# Altium schematic symbol library WE-LAN.SchLib: 47 symbols
Pins are listed as number, name and electrical type; pins without a type are passive.

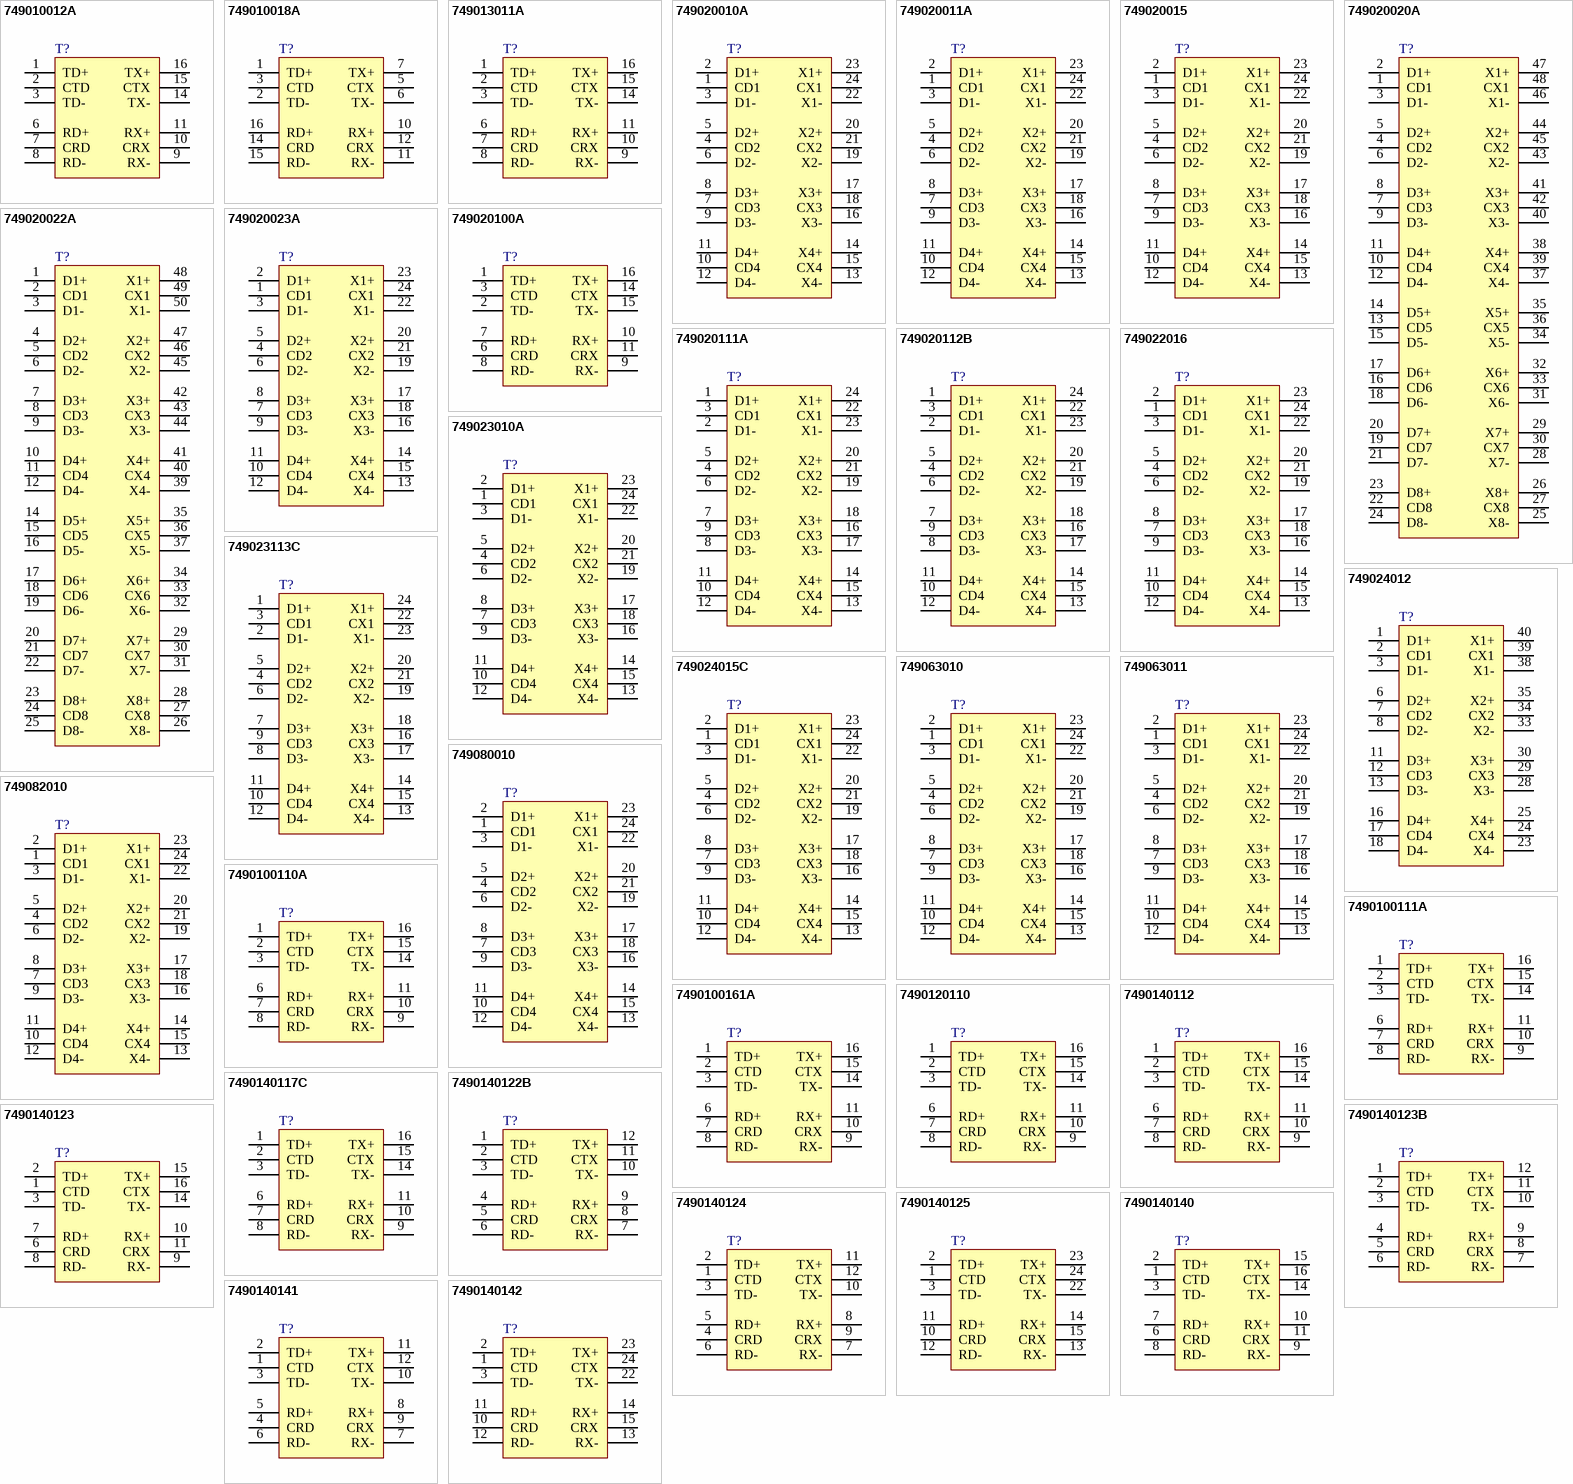
[diagram p0: symbols 749010012A to 7490140142]

## 749010012A
designator T?  (value not drawn)
WE-LAN LAN Transformer, SMT, 10/100BASE-TX, 1 Port, 350uH, 1500V (RMS); Manufacturer: Wurth Elektronik; Improved CMRR: No; Number of Ports: 1; PoE: non-PoE; Manufacturer Part Number: 749010012A; Product Series: WE-LAN; ComponentLink1Description: Website Link; ComponentLink1URL: https://www.we-online.com; ComponentLink2Description: Datasheet Link; ComponentLink2URL: https://www.we-online.com/components/products/datasheet/749010012A; Mount: Surface Mount; Operating Temperature Min: 0degC; Operating Temperature Max: 70degC; Packaging: Tape and Reel; Data Rate: 10/100BASE-TX; Inductance: 350uH; Insulation Test Voltage: 1500V (RMS)
footprint 749010012A
pins: 1 TD+, 2 CTD, 3 TD-, 6 RD+, 7 CRD, 8 RD-, 9 RX-, 10 CRX, 11 RX+, 14 TX-, 15 CTX, 16 TX+

## 749010018A
designator T?  (value not drawn)
WE-LAN LAN Transformer, SMT, 10/100BASE-T, 1 Port, 350uH, 1500V (RMS); Manufacturer: Wurth Elektronik; Number of Ports: 1; PoE: non-PoE; Manufacturer Part Number: 749010018A; Product Series: WE-LAN; ComponentLink1Description: Website Link; ComponentLink1URL: https://www.we-online.com; ComponentLink2Description: Datasheet Link; ComponentLink2URL: https://www.we-online.com/components/products/datasheet/749010018A; Mount: Surface Mount; Operating Temperature Min: -40degC; Operating Temperature Max: 85degC; Packaging: Tape and Reel; Data Rate: 10/100BASE-T; Inductance: 350uH; Insulation Test Voltage: 1500V (RMS)
footprint 749010018A
pins: 1 TD+, 2 TD-, 3 CTD, 5 CTX, 6 TX-, 7 TX+, 10 RX+, 11 RX-, 12 CRX, 14 CRD, 15 RD-, 16 RD+

## 749013011A
designator T?  (value not drawn)
WE-LAN LAN Transformer, SMT, 10/100BASE-TX, 1 Port, 350uH, 1500V (RMS); Manufacturer: Wurth Elektronik; Improved CMRR: No; Number of Ports: 1; PoE: PoE (up to 350 mA); Manufacturer Part Number: 749013011A; Product Series: WE-LAN; ComponentLink1Description: Website Link; ComponentLink1URL: https://www.we-online.com; ComponentLink2Description: Datasheet Link; ComponentLink2URL: https://www.we-online.com/components/products/datasheet/749013011A; Mount: Surface Mount; Operating Temperature Min: -40degC; Operating Temperature Max: 105degC; Packaging: Tape and Reel; Data Rate: 10/100BASE-TX; Inductance: 350uH; Insulation Test Voltage: 1500V (RMS)
footprint 749013011A
pins: 1 TD+, 2 CTD, 3 TD-, 6 RD+, 7 CRD, 8 RD-, 9 RX-, 10 CRX, 11 RX+, 14 TX-, 15 CTX, 16 TX+

## 749020010A
designator T?  (value not drawn)
WE-LAN LAN Transformer, SMT, 1000 Base-T, 1 Port, 350uH, 1500V (RMS); Manufacturer: Wurth Elektronik; Improved CMRR: No; Number of Ports: 1; PoE: non-PoE; Manufacturer Part Number: 749020010A; Product Series: WE-LAN; ComponentLink1Description: Website Link; ComponentLink1URL: https://www.we-online.com; ComponentLink2Description: Datasheet Link; ComponentLink2URL: https://www.we-online.com/components/products/datasheet/749020010A; Mount: Surface Mount; Operating Temperature Min: -40degC; Operating Temperature Max: 85degC; Packaging: Tape and Reel; Data Rate: 1000 Base-T; Inductance: 350uH; Insulation Test Voltage: 1500V (RMS)
footprint 749020010A
pins: 1 CD1, 2 D1+, 3 D1-, 4 CD2, 5 D2+, 6 D2-, 7 CD3, 8 D3+, 9 D3-, 10 CD4, 11 D4+, 12 D4-, 13 X4-, 14 X4+, 15 CX4, 16 X3-, 17 X3+, 18 CX3, 19 X2-, 20 X2+, 21 CX2, 22 X1-, 23 X1+, 24 CX1

## 749020011A
designator T?  (value not drawn)
WE-LAN LAN Transformer, SMT, 1000 Base-T, 1 Port, 350uH, 1500V (RMS); Manufacturer: Wurth Elektronik; Improved CMRR: Yes; Number of Ports: 1; PoE: non-PoE; Manufacturer Part Number: 749020011A; Product Series: WE-LAN; ComponentLink1Description: Website Link; ComponentLink1URL: https://www.we-online.com; ComponentLink2Description: Datasheet Link; ComponentLink2URL: https://www.we-online.com/components/products/datasheet/749020011A; Mount: Surface Mount; Operating Temperature Min: -40degC; Operating Temperature Max: 85degC; Packaging: Tape and Reel; Data Rate: 1000 Base-T; Inductance: 350uH; Insulation Test Voltage: 1500V (RMS)
footprint 749020011A
pins: 1 CD1, 2 D1+, 3 D1-, 4 CD2, 5 D2+, 6 D2-, 7 CD3, 8 D3+, 9 D3-, 10 CD4, 11 D4+, 12 D4-, 13 X4-, 14 X4+, 15 CX4, 16 X3-, 17 X3+, 18 CX3, 19 X2-, 20 X2+, 21 CX2, 22 X1-, 23 X1+, 24 CX1

## 749020015
designator T?  (value not drawn)
WE-LAN LAN Transformer, SMT, 10/100/1000BASE-T, 1 Port, 350uH, 1500V (RMS); Manufacturer: Wurth Elektronik; Improved CMRR: No; Number of Ports: 1; PoE: non-PoE; Manufacturer Part Number: 749020015; Product Series: WE-LAN; ComponentLink1Description: Website Link; ComponentLink1URL: https://www.we-online.com; ComponentLink2Description: Datasheet Link; ComponentLink2URL: https://www.we-online.com/components/products/datasheet/749020015; Mount: Surface Mount; Operating Temperature Min: -40degC; Operating Temperature Max: 85degC; Packaging: Tape and Reel; Data Rate: 10/100/1000BASE-T; Inductance: 350uH; Insulation Test Voltage: 1500V (RMS)
footprint 749020015
pins: 1 CD1, 2 D1+, 3 D1-, 4 CD2, 5 D2+, 6 D2-, 7 CD3, 8 D3+, 9 D3-, 10 CD4, 11 D4+, 12 D4-, 13 X4-, 14 X4+, 15 CX4, 16 X3-, 17 X3+, 18 CX3, 19 X2-, 20 X2+, 21 CX2, 22 X1-, 23 X1+, 24 CX1

## 749020020A
designator T?  (value not drawn)
WE-LAN LAN Transformer, SMT, 10/100/1000BASE-T, 2 Port, 350uH, 1500V (RMS); Manufacturer: Wurth Elektronik; Improved CMRR: No; Number of Ports: 2; PoE: non-PoE; Manufacturer Part Number: 749020020A; Product Series: WE-LAN; ComponentLink1Description: Website Link; ComponentLink1URL: https://www.we-online.com; ComponentLink2Description: Datasheet Link; ComponentLink2URL: https://www.we-online.com/components/products/datasheet/749020020A; Mount: Surface Mount; Operating Temperature Min: -40degC; Operating Temperature Max: 85degC; Packaging: Tape and Reel; Data Rate: 10/100/1000BASE-T; Inductance: 350uH; Insulation Test Voltage: 1500V (RMS)
footprint 749020020A
pins: 1 CD1, 2 D1+, 3 D1-, 4 CD2, 5 D2+, 6 D2-, 7 CD3, 8 D3+, 9 D3-, 10 CD4, 11 D4+, 12 D4-, 13 CD5, 14 D5+, 15 D5-, 16 CD6, 17 D6+, 18 D6-, 19 CD7, 20 D7+, 21 D7-, 22 CD8, 23 D8+, 24 D8-, 25 X8-, 26 X8+, 27 CX8, 28 X7-, 29 X7+, 30 CX7, 31 X6-, 32 X6+, 33 CX6, 34 X5-, 35 X5+, 36 CX5, 37 X4-, 38 X4+, 39 CX4, 40 X3-, 41 X3+, 42 CX3, 43 X2-, 44 X2+, 45 CX2, 46 X1-, 47 X1+, 48 CX1

## 749020022A
designator T?  (value not drawn)
WE-LAN LAN Transformer, SMT, 1000 Base-T, 2 Port, 350uH, 1500V (RMS); Manufacturer: Wurth Elektronik; Improved CMRR: No; Number of Ports: 2; PoE: non-PoE; Manufacturer Part Number: 749020022A; Product Series: WE-LAN; ComponentLink1Description: Website Link; ComponentLink1URL: https://www.we-online.com; ComponentLink2Description: Datasheet Link; ComponentLink2URL: https://www.we-online.com/components/products/datasheet/749020022A; Mount: Surface Mount; Operating Temperature Min: -40degC; Operating Temperature Max: 85degC; Packaging: Tape and Reel; Data Rate: 1000 Base-T; Inductance: 350uH; Insulation Test Voltage: 1500V (RMS)
footprint 749020022A
pins: 1 D1+, 2 CD1, 3 D1-, 4 D2+, 5 CD2, 6 D2-, 7 D3+, 8 CD3, 9 D3-, 10 D4+, 11 CD4, 12 D4-, 14 D5+, 15 CD5, 16 D5-, 17 D6+, 18 CD6, 19 D6-, 20 D7+, 21 CD7, 22 D7-, 23 D8+, 24 CD8, 25 D8-, 26 X8-, 27 CX8, 28 X8+, 29 X7+, 30 CX7, 31 X7-, 32 X6-, 33 CX6, 34 X6+, 35 X5+, 36 CX5, 37 X5-, 39 X4-, 40 CX4, 41 X4+, 42 X3+, 43 CX3, 44 X3-, 45 X2-, 46 CX2, 47 X2+, 48 X1+, 49 CX1, 50 X1-

## 749020023A
designator T?  (value not drawn)
WE-LAN LAN Transformer, SMT, 1000BASE-T, 1 Port, 350uH, 1500V (RMS); Manufacturer: Wurth Elektronik; Improved CMRR: No; Number of Ports: 1; PoE: non-PoE; Manufacturer Part Number: 749020023A; Product Series: WE-LAN; ComponentLink1Description: Website Link; ComponentLink1URL: https://www.we-online.com; ComponentLink2Description: Datasheet Link; ComponentLink2URL: https://www.we-online.com/components/products/datasheet/749020023A; Mount: Surface Mount; Operating Temperature Min: -40degC; Operating Temperature Max: 105degC; Packaging: Tape and Reel; Data Rate: 1000BASE-T; Inductance: 350uH; Insulation Test Voltage: 1500V (RMS)
footprint 749020023A
pins: 1 CD1, 2 D1+, 3 D1-, 4 CD2, 5 D2+, 6 D2-, 7 CD3, 8 D3+, 9 D3-, 10 CD4, 11 D4+, 12 D4-, 13 X4-, 14 X4+, 15 CX4, 16 X3-, 17 X3+, 18 CX3, 19 X2-, 20 X2+, 21 CX2, 22 X1-, 23 X1+, 24 CX1

## 749020100A
designator T?  (value not drawn)
WE-LAN LAN Transformer, SMT, 10/100/1000BASE-T, 0.5 Port, 350uH, 1500V (RMS); Manufacturer: Wurth Elektronik; Improved CMRR: No; Number of Ports: 0.5; PoE: non-PoE; Manufacturer Part Number: 749020100A; Product Series: WE-LAN; ComponentLink1Description: Website Link; ComponentLink1URL: https://www.we-online.com; ComponentLink2Description: Datasheet Link; ComponentLink2URL: https://www.we-online.com/components/products/datasheet/749020100A; Mount: Surface Mount; Operating Temperature Min: -40degC; Operating Temperature Max: 105degC; Packaging: Tape and Reel; Data Rate: 10/100/1000BASE-T; Inductance: 350uH; Insulation Test Voltage: 1500V (RMS)
footprint 749020100A
pins: 1 TD+, 2 TD-, 3 CTD, 6 CRD, 7 RD+, 8 RD-, 9 RX-, 10 RX+, 11 CRX, 14 CTX, 15 TX-, 16 TX+

## 749020111A
designator T?  (value not drawn)
WE-LAN LAN Transformer, SMT, 1000 Base-T, 1 Port, 350uH, 1500V (RMS); Manufacturer: Wurth Elektronik; Improved CMRR: No; Number of Ports: 1; PoE: non-PoE; Manufacturer Part Number: 749020111A; Product Series: WE-LAN; ComponentLink1Description: Website Link; ComponentLink1URL: https://www.we-online.com; ComponentLink2Description: Datasheet Link; ComponentLink2URL: https://www.we-online.com/components/products/datasheet/749020111A; Mount: Surface Mount; Operating Temperature Min: 0degC; Operating Temperature Max: 70degC; Packaging: Tape and Reel; Data Rate: 1000 Base-T; Inductance: 350uH; Insulation Test Voltage: 1500V (RMS)
footprint 749020111A
pins: 1 D1+, 2 D1-, 3 CD1, 4 CD2, 5 D2+, 6 D2-, 7 D3+, 8 D3-, 9 CD3, 10 CD4, 11 D4+, 12 D4-, 13 X4-, 14 X4+, 15 CX4, 16 CX3, 17 X3-, 18 X3+, 19 X2-, 20 X2+, 21 CX2, 22 CX1, 23 X1-, 24 X1+

## 749020112B
designator T?  (value not drawn)
WE-LAN LAN Transformer, SMT, 10/100/1000BASE-T, 1 Port, 350uH, 1500V (RMS); Manufacturer: Wurth Elektronik; Improved CMRR: No; Number of Ports: 1; PoE: non-PoE; Manufacturer Part Number: 749020112B; Product Series: WE-LAN; ComponentLink1Description: Website Link; ComponentLink1URL: https://www.we-online.com; ComponentLink2Description: Datasheet Link; ComponentLink2URL: https://www.we-online.com/components/products/datasheet/749020112B; Mount: Surface Mount; Operating Temperature Min: -40degC; Operating Temperature Max: 105degC; Packaging: Tape and Reel; Data Rate: 10/100/1000BASE-T; Inductance: 350uH; Insulation Test Voltage: 1500V (RMS)
footprint 749020112B
pins: 1 D1+, 2 D1-, 3 CD1, 4 CD2, 5 D2+, 6 D2-, 7 D3+, 8 D3-, 9 CD3, 10 CD4, 11 D4+, 12 D4-, 13 X4-, 14 X4+, 15 CX4, 16 CX3, 17 X3-, 18 X3+, 19 X2-, 20 X2+, 21 CX2, 22 CX1, 23 X1-, 24 X1+

## 749022016
designator T?  (value not drawn)
WE-LAN LAN Transformer, SMT, 1000BASE-T, 1 Port, 350uH, 1500V (RMS); Manufacturer: Wurth Elektronik; Improved CMRR: No; Number of Ports: 1; PoE: PoE+ (up to 1150 mA); Manufacturer Part Number: 749022016; Product Series: WE-LAN; ComponentLink1Description: Website Link; ComponentLink1URL: https://www.we-online.com; ComponentLink2Description: Datasheet Link; ComponentLink2URL: https://www.we-online.com/components/products/datasheet/749022016; Mount: Surface Mount; Operating Temperature Min: 0degC; Operating Temperature Max: 70degC; Packaging: Tape and Reel; Data Rate: 1000BASE-T; Inductance: 350uH; Insulation Test Voltage: 1500V (RMS)
footprint 749022016
pins: 1 CD1, 2 D1+, 3 D1-, 4 CD2, 5 D2+, 6 D2-, 7 CD3, 8 D3+, 9 D3-, 10 CD4, 11 D4+, 12 D4-, 13 X4-, 14 X4+, 15 CX4, 16 X3-, 17 X3+, 18 CX3, 19 X2-, 20 X2+, 21 CX2, 22 X1-, 23 X1+, 24 CX1

## 749023010A
designator T?  (value not drawn)
WE-LAN LAN Transformer, SMT, 1000 Base-T, 1 Port, 350uH, 1500V (RMS); Manufacturer: Wurth Elektronik; Improved CMRR: No; Number of Ports: 1; PoE: PoE (up to 350 mA); Manufacturer Part Number: 749023010A; Product Series: WE-LAN; ComponentLink1Description: Website Link; ComponentLink1URL: https://www.we-online.com; ComponentLink2Description: Datasheet Link; ComponentLink2URL: https://www.we-online.com/components/products/datasheet/749023010A; Mount: Surface Mount; Operating Temperature Min: 0degC; Operating Temperature Max: 70degC; Packaging: Tape and Reel; Data Rate: 1000 Base-T; Inductance: 350uH; Insulation Test Voltage: 1500V (RMS)
footprint 749023010A
pins: 1 CD1, 2 D1+, 3 D1-, 4 CD2, 5 D2+, 6 D2-, 7 CD3, 8 D3+, 9 D3-, 10 CD4, 11 D4+, 12 D4-, 13 X4-, 14 X4+, 15 CX4, 16 X3-, 17 X3+, 18 CX3, 19 X2-, 20 X2+, 21 CX2, 22 X1-, 23 X1+, 24 CX1

## 749023113C
designator T?  (value not drawn)
WE-LAN LAN Transformer, SMT, 10/100/1000BASE-T, 1 Port, 350uH, 1500V (RMS); Manufacturer: Wurth Elektronik; Improved CMRR: No; Number of Ports: 1; PoE: PoE (up to 350 mA); Manufacturer Part Number: 749023113C; Product Series: WE-LAN; ComponentLink1Description: Website Link; ComponentLink1URL: https://www.we-online.com; ComponentLink2Description: Datasheet Link; ComponentLink2URL: https://www.we-online.com/components/products/datasheet/749023113C; Mount: Surface Mount; Operating Temperature Min: -40degC; Operating Temperature Max: 85degC; Packaging: Tape and Reel; Data Rate: 10/100/1000BASE-T; Inductance: 350uH; Insulation Test Voltage: 1500V (RMS)
footprint 749023113C
pins: 1 D1+, 2 D1-, 3 CD1, 4 CD2, 5 D2+, 6 D2-, 7 D3+, 8 D3-, 9 CD3, 10 CD4, 11 D4+, 12 D4-, 13 X4-, 14 X4+, 15 CX4, 16 CX3, 17 X3-, 18 X3+, 19 X2-, 20 X2+, 21 CX2, 22 CX1, 23 X1-, 24 X1+

## 749024012
designator T?  (value not drawn)
WE-LAN LAN Transformer, SMT, 1000BASE-T, 1 Port, 350uH, 4000V (RMS); Manufacturer: Wurth Elektronik; Number of Ports: 1; PoE: non-PoE; Manufacturer Part Number: 749024012; Product Series: WE-LAN; ComponentLink1Description: Website Link; ComponentLink1URL: https://www.we-online.com; ComponentLink2Description: Datasheet Link; ComponentLink2URL: https://www.we-online.com/components/products/datasheet/749024012; Mount: Surface Mount; Operating Temperature Min: -40degC; Operating Temperature Max: 85degC; Packaging: Tape and Reel; Data Rate: 1000BASE-T; Inductance: 350uH; Insulation Test Voltage: 4000V (RMS)
footprint 749024012
pins: 1 D1+, 2 CD1, 3 D1-, 6 D2+, 7 CD2, 8 D2-, 11 D3+, 12 CD3, 13 D3-, 16 D4+, 17 CD4, 18 D4-, 23 X4-, 24 CX4, 25 X4+, 28 X3-, 29 CX3, 30 X3+, 33 X2-, 34 CX2, 35 X2+, 38 X1-, 39 CX1, 40 X1+

## 749024015C
designator T?  (value not drawn)
WE-LAN LAN Transformer, SMT, 10/100/1000BASE-T, 1 Port, 350uH, 1500V (RMS); Manufacturer: Wurth Elektronik; Improved CMRR: No; Number of Ports: 1; PoE: non-PoE; Manufacturer Part Number: 749024015C; Product Series: WE-LAN; ComponentLink1Description: Website Link; ComponentLink1URL: https://www.we-online.com; ComponentLink2Description: Datasheet Link; ComponentLink2URL: https://www.we-online.com/components/products/datasheet/749024015C; Mount: Surface Mount; Operating Temperature Min: -40degC; Operating Temperature Max: 105degC; Packaging: Tape and Reel; Data Rate: 10/100/1000BASE-T; Inductance: 350uH; Insulation Test Voltage: 1500V (RMS)
footprint 749024015C
pins: 1 CD1, 2 D1+, 3 D1-, 4 CD2, 5 D2+, 6 D2-, 7 CD3, 8 D3+, 9 D3-, 10 CD4, 11 D4+, 12 D4-, 13 X4-, 14 X4+, 15 CX4, 16 X3-, 17 X3+, 18 CX3, 19 X2-, 20 X2+, 21 CX2, 22 X1-, 23 X1+, 24 CX1

## 749063010
designator T?  (value not drawn)
WE-LAN LAN Transformer, SMT, HD BaseT, 1 Port, 200uH, 1500V (RMS); Manufacturer: Wurth Elektronik; Improved CMRR: No; Number of Ports: 1; PoE: PoE (up to 350 mA); Manufacturer Part Number: 749063010; Product Series: WE-LAN; ComponentLink1Description: Website Link; ComponentLink1URL: https://www.we-online.com; ComponentLink2Description: Datasheet Link; ComponentLink2URL: https://www.we-online.com/components/products/datasheet/749063010; Mount: Surface Mount; Operating Temperature Min: -40degC; Operating Temperature Max: 85degC; Packaging: Tape and Reel; Data Rate: HD BaseT; Inductance: 200uH; Insulation Test Voltage: 1500V (RMS)
footprint 749063010
pins: 1 CD1, 2 D1+, 3 D1-, 4 CD2, 5 D2+, 6 D2-, 7 CD3, 8 D3+, 9 D3-, 10 CD4, 11 D4+, 12 D4-, 13 X4-, 14 X4+, 15 CX4, 16 X3-, 17 X3+, 18 CX3, 19 X2-, 20 X2+, 21 CX2, 22 X1-, 23 X1+, 24 CX1

## 749063011
designator T?  (value not drawn)
WE-LAN LAN Transformer, SMT, HD BaseT, 1 Port, 200uH, 1500V (RMS); Manufacturer: Wurth Elektronik; Improved CMRR: No; Number of Ports: 1; PoE: PoE (up to 350 mA); Manufacturer Part Number: 749063011; Product Series: WE-LAN; ComponentLink1Description: Website Link; ComponentLink1URL: https://www.we-online.com; ComponentLink2Description: Datasheet Link; ComponentLink2URL: https://www.we-online.com/components/products/datasheet/749063011; Mount: Surface Mount; Operating Temperature Min: -40degC; Operating Temperature Max: 85degC; Packaging: Tape and Reel; Data Rate: HD BaseT; Inductance: 200uH; Insulation Test Voltage: 1500V (RMS)
footprint 749063011
pins: 1 CD1, 2 D1+, 3 D1-, 4 CD2, 5 D2+, 6 D2-, 7 CD3, 8 D3+, 9 D3-, 10 CD4, 11 D4+, 12 D4-, 13 X4-, 14 X4+, 15 CX4, 16 X3-, 17 X3+, 18 CX3, 19 X2-, 20 X2+, 21 CX2, 22 X1-, 23 X1+, 24 CX1

## 749080010
designator T?  (value not drawn)
WE-LAN LAN Transformer, SMT, 2.5/5G Base-T, 1 Port, 200uH, 1500V (RMS); Manufacturer: Wurth Elektronik; Improved CMRR: No; Number of Ports: 1; PoE: non-PoE; Manufacturer Part Number: 749080010; Product Series: WE-LAN; ComponentLink1Description: Website Link; ComponentLink1URL: https://www.we-online.com; ComponentLink2Description: Datasheet Link; ComponentLink2URL: https://www.we-online.com/components/products/datasheet/749080010; Mount: Surface Mount; Operating Temperature Min: -40degC; Operating Temperature Max: 85degC; Packaging: Tape and Reel; Data Rate: 2.5/5G Base-T; Inductance: 200uH; Insulation Test Voltage: 1500V (RMS)
footprint 749080010
pins: 1 CD1, 2 D1+, 3 D1-, 4 CD2, 5 D2+, 6 D2-, 7 CD3, 8 D3+, 9 D3-, 10 CD4, 11 D4+, 12 D4-, 13 X4-, 14 X4+, 15 CX4, 16 X3-, 17 X3+, 18 CX3, 19 X2-, 20 X2+, 21 CX2, 22 X1-, 23 X1+, 24 CX1

## 749082010
designator T?  (value not drawn)
WE-LAN LAN Transformer, SMT, 2.5/5G Base-T, 1 Port, 120uH, 1500V (RMS); Manufacturer: Wurth Elektronik; Improved CMRR: No; Number of Ports: 1; PoE: 4PPoE (up to 1500 mA); Manufacturer Part Number: 749082010; Product Series: WE-LAN; ComponentLink1Description: Website Link; ComponentLink1URL: https://www.we-online.com; ComponentLink2Description: Datasheet Link; ComponentLink2URL: https://www.we-online.com/components/products/datasheet/749082010; Mount: Surface Mount; Operating Temperature Min: -40degC; Operating Temperature Max: 85degC; Packaging: Tape and Reel; Data Rate: 2.5/5G Base-T; Inductance: 120uH; Insulation Test Voltage: 1500V (RMS)
footprint 749082010
pins: 1 CD1, 2 D1+, 3 D1-, 4 CD2, 5 D2+, 6 D2-, 7 CD3, 8 D3+, 9 D3-, 10 CD4, 11 D4+, 12 D4-, 13 X4-, 14 X4+, 15 CX4, 16 X3-, 17 X3+, 18 CX3, 19 X2-, 20 X2+, 21 CX2, 22 X1-, 23 X1+, 24 CX1

## 7490100110A
designator T?  (value not drawn)
WE-LAN LAN Transformer, SMT, 10/100BASE-TX, 1 Port, 350uH, 1500V (RMS); Manufacturer: Wurth Elektronik; Improved CMRR: No; Number of Ports: 1; PoE: non-PoE; Manufacturer Part Number: 7490100110A; Product Series: WE-LAN; ComponentLink1Description: Website Link; ComponentLink1URL: https://www.we-online.com; ComponentLink2Description: Datasheet Link; ComponentLink2URL: https://www.we-online.com/components/products/datasheet/7490100110A; Mount: Surface Mount; Operating Temperature Min: 0degC; Operating Temperature Max: 70degC; Packaging: Tape and Reel; Data Rate: 10/100BASE-TX; Inductance: 350uH; Insulation Test Voltage: 1500V (RMS)
footprint 7490100110A
pins: 1 TD+, 2 CTD, 3 TD-, 6 RD+, 7 CRD, 8 RD-, 9 RX-, 10 CRX, 11 RX+, 14 TX-, 15 CTX, 16 TX+

## 7490100111A
designator T?  (value not drawn)
WE-LAN LAN Transformer, SMT, 10/100BASE-TX, 1 Port, 350uH, 1500V (RMS); Manufacturer: Wurth Elektronik; Improved CMRR: No; Number of Ports: 1; PoE: non-PoE; Manufacturer Part Number: 7490100111A; Product Series: WE-LAN; ComponentLink1Description: Website Link; ComponentLink1URL: https://www.we-online.com; ComponentLink2Description: Datasheet Link; ComponentLink2URL: https://www.we-online.com/components/products/datasheet/7490100111A; Mount: Surface Mount; Operating Temperature Min: -40degC; Operating Temperature Max: 105degC; Packaging: Tape and Reel; Data Rate: 10/100BASE-TX; Inductance: 350uH; Insulation Test Voltage: 1500V (RMS)
footprint 7490100111A
pins: 1 TD+, 2 CTD, 3 TD-, 6 RD+, 7 CRD, 8 RD-, 9 RX-, 10 CRX, 11 RX+, 14 TX-, 15 CTX, 16 TX+

## 7490100161A
designator T?  (value not drawn)
WE-LAN LAN Transformer, SMT, 10/100BASE-TX, 1 Port, 350uH, 1500V (RMS); Manufacturer: Wurth Elektronik; Improved CMRR: No; Number of Ports: 1; PoE: non-PoE; Manufacturer Part Number: 7490100161A; Product Series: WE-LAN; ComponentLink1Description: Website Link; ComponentLink1URL: https://www.we-online.com; ComponentLink2Description: Datasheet Link; ComponentLink2URL: https://www.we-online.com/components/products/datasheet/7490100161A; Mount: Surface Mount; Operating Temperature Min: -40degC; Operating Temperature Max: 125degC; Packaging: Tape and Reel; Data Rate: 10/100BASE-TX; Inductance: 350uH; Insulation Test Voltage: 1500V (RMS)
footprint 7490100161A
pins: 1 TD+, 2 CTD, 3 TD-, 6 RD+, 7 CRD, 8 RD-, 9 RX-, 10 CRX, 11 RX+, 14 TX-, 15 CTX, 16 TX+

## 7490120110
designator T?  (value not drawn)
WE-LAN LAN Transformer, SMT, 10/100BASE-TX, 1 Port, 120uH, 1500V (RMS); Manufacturer: Wurth Elektronik; Improved CMRR: No; Number of Ports: 1; PoE: PoE+ (up to 720 mA); Manufacturer Part Number: 7490120110; Product Series: WE-LAN; ComponentLink1Description: Website Link; ComponentLink1URL: https://www.we-online.com; ComponentLink2Description: Datasheet Link; ComponentLink2URL: https://www.we-online.com/components/products/datasheet/7490120110; Mount: Surface Mount; Operating Temperature Min: -40degC; Operating Temperature Max: 85degC; Packaging: Tape and Reel; Data Rate: 10/100BASE-TX; Inductance: 120uH; Insulation Test Voltage: 1500V (RMS)
footprint 7490120110
pins: 1 TD+, 2 CTD, 3 TD-, 6 RD+, 7 CRD, 8 RD-, 9 RX-, 10 CRX, 11 RX+, 14 TX-, 15 CTX, 16 TX+

## 7490140112
designator T?  (value not drawn)
WE-LAN LAN Transformer, SMT, 10/100BASE-T, 1 Port, 350uH, 6000V (RMS); Manufacturer: Wurth Elektronik; Number of Ports: 1; PoE: non-PoE; Manufacturer Part Number: 7490140112; Product Series: WE-LAN; ComponentLink1Description: Website Link; ComponentLink1URL: https://www.we-online.com; ComponentLink2Description: Datasheet Link; ComponentLink2URL: https://www.we-online.com/components/products/datasheet/7490140112; Mount: Surface Mount; Operating Temperature Min: -40degC; Operating Temperature Max: 85degC; Packaging: Tape and Reel; Data Rate: 10/100BASE-T; Inductance: 350uH; Insulation Test Voltage: 6000V (RMS)
footprint 7490140112
pins: 1 TD+, 2 CTD, 3 TD-, 6 RD+, 7 CRD, 8 RD-, 9 RX-, 10 CRX, 11 RX+, 14 TX-, 15 CTX, 16 TX+

## 7490140117C
designator T?  (value not drawn)
WE-LAN LAN Transformer, SMT, 10/100BASE-TX, 1 Port, 350uH, 2500V (RMS); Manufacturer: Wurth Elektronik; Improved CMRR: No; Number of Ports: 1; PoE: non-PoE; Manufacturer Part Number: 7490140117C; Product Series: WE-LAN; ComponentLink1Description: Website Link; ComponentLink1URL: https://www.we-online.com; ComponentLink2Description: Datasheet Link; ComponentLink2URL: https://www.we-online.com/components/products/datasheet/7490140117C; Mount: Surface Mount; Operating Temperature Min: -40degC; Operating Temperature Max: 105degC; Packaging: Tape and Reel; Data Rate: 10/100BASE-TX; Inductance: 350uH; Insulation Test Voltage: 2500V (RMS)
footprint 7490140117C
pins: 1 TD+, 2 CTD, 3 TD-, 6 RD+, 7 CRD, 8 RD-, 9 RX-, 10 CRX, 11 RX+, 14 TX-, 15 CTX, 16 TX+

## 7490140122B
designator T?  (value not drawn)
WE-LAN LAN Transformer, SMT, 10/100BASE-T, 1 Port, 350uH, 4500V (RMS); Manufacturer: Wurth Elektronik; Improved CMRR: No; Number of Ports: 1; PoE: non-PoE; Manufacturer Part Number: 7490140122B; Product Series: WE-LAN; ComponentLink1Description: Website Link; ComponentLink1URL: https://www.we-online.com; ComponentLink2Description: Datasheet Link; ComponentLink2URL: https://www.we-online.com/components/products/datasheet/7490140122B; Mount: Surface Mount; Operating Temperature Min: -40degC; Operating Temperature Max: 85degC; Packaging: Tape and Reel; Data Rate: 10/100BASE-T; Inductance: 350uH; Insulation Test Voltage: 4500V (RMS)
footprint 7490140122B
pins: 1 TD+, 2 CTD, 3 TD-, 4 RD+, 5 CRD, 6 RD-, 7 RX-, 8 CRX, 9 RX+, 10 TX-, 11 CTX, 12 TX+

## 7490140123
designator T?  (value not drawn)
WE-LAN LAN Transformer, SMT, 10/100BASE-T, 1 Port, 350uH, 1500V (RMS); Manufacturer: Wurth Elektronik; Improved CMRR: No; Number of Ports: 1; PoE: non-PoE; Manufacturer Part Number: 7490140123; Product Series: WE-LAN; ComponentLink1Description: Website Link; ComponentLink1URL: https://www.we-online.com; ComponentLink2Description: Datasheet Link; ComponentLink2URL: https://www.we-online.com/components/products/datasheet/7490140123; Mount: Surface Mount; Operating Temperature Min: -40degC; Operating Temperature Max: 85degC; Packaging: Tape and Reel; Data Rate: 10/100BASE-T; Inductance: 350uH; Insulation Test Voltage: 1500V (RMS)
footprint 7490140123
pins: 1 CTD, 2 TD+, 3 TD-, 6 CRD, 7 RD+, 8 RD-, 9 RX-, 10 RX+, 11 CRX, 14 TX-, 15 TX+, 16 CTX

## 7490140123B
designator T?  (value not drawn)
WE-LAN LAN Transformer, SMT, 10/100BASE-T, 1 Port, 350uH, 4500V (RMS); Manufacturer: Wurth Elektronik; Improved CMRR: No; Number of Ports: 1; PoE: PoE (up to 350 mA); Manufacturer Part Number: 7490140123B; Product Series: WE-LAN; ComponentLink1Description: Website Link; ComponentLink1URL: https://www.we-online.com; ComponentLink2Description: Datasheet Link; ComponentLink2URL: https://www.we-online.com/components/products/datasheet/7490140123B; Mount: Surface Mount; Operating Temperature Min: -40degC; Operating Temperature Max: 85degC; Packaging: Tape and Reel; Data Rate: 10/100BASE-T; Inductance: 350uH; Insulation Test Voltage: 4500V (RMS)
footprint 7490140123B
pins: 1 TD+, 2 CTD, 3 TD-, 4 RD+, 5 CRD, 6 RD-, 7 RX-, 8 CRX, 9 RX+, 10 TX-, 11 CTX, 12 TX+

## 7490140124
designator T?  (value not drawn)
WE-LAN LAN Transformer, SMT, 10/100BASE-T, 1 Port, 350uH, 1500V (RMS); Manufacturer: Wurth Elektronik; Improved CMRR: No; Number of Ports: 1; PoE: non-PoE; Manufacturer Part Number: 7490140124; Product Series: WE-LAN; ComponentLink1Description: Website Link; ComponentLink1URL: https://www.we-online.com; ComponentLink2Description: Datasheet Link; ComponentLink2URL: https://www.we-online.com/components/products/datasheet/7490140124; Mount: Surface Mount; Operating Temperature Min: -40degC; Operating Temperature Max: 85degC; Packaging: Tape and Reel; Data Rate: 10/100BASE-T; Inductance: 350uH; Insulation Test Voltage: 1500V (RMS)
footprint 7490140124
pins: 1 CTD, 2 TD+, 3 TD-, 4 CRD, 5 RD+, 6 RD-, 7 RX-, 8 RX+, 9 CRX, 10 TX-, 11 TX+, 12 CTX

## 7490140125
designator T?  (value not drawn)
WE-LAN LAN Transformer, SMT, 10/100BASE-T, 1 Port, 350uH, 1500V (RMS); Manufacturer: Wurth Elektronik; Improved CMRR: No; Number of Ports: 1; PoE: non-PoE; Manufacturer Part Number: 7490140125; Product Series: WE-LAN; ComponentLink1Description: Website Link; ComponentLink1URL: https://www.we-online.com; ComponentLink2Description: Datasheet Link; ComponentLink2URL: https://www.we-online.com/components/products/datasheet/7490140125; Mount: Surface Mount; Operating Temperature Min: -40degC; Operating Temperature Max: 85degC; Packaging: Tape and Reel; Data Rate: 10/100BASE-T; Inductance: 350uH; Insulation Test Voltage: 1500V (RMS)
footprint 7490140125
pins: 1 CTD, 2 TD+, 3 TD-, 10 CRD, 11 RD+, 12 RD-, 13 RX-, 14 RX+, 15 CRX, 22 TX-, 23 TX+, 24 CTX

## 7490140140
designator T?  (value not drawn)
WE-LAN LAN Transformer, SMT, 10/100BASE-T, 1 Port, 350uH, 4000V (RMS); Manufacturer: Wurth Elektronik; Improved CMRR: No; Number of Ports: 1; PoE: PoE (up to 350 mA); Manufacturer Part Number: 7490140140; Product Series: WE-LAN; ComponentLink1Description: Website Link; ComponentLink1URL: https://www.we-online.com; ComponentLink2Description: Datasheet Link; ComponentLink2URL: https://www.we-online.com/components/products/datasheet/7490140140; Mount: Surface Mount; Operating Temperature Min: -40degC; Operating Temperature Max: 85degC; Packaging: Tape and Reel; Data Rate: 10/100BASE-T; Inductance: 350uH; Insulation Test Voltage: 4000V (RMS)
footprint 7490140140
pins: 1 CTD, 2 TD+, 3 TD-, 6 CRD, 7 RD+, 8 RD-, 9 RX-, 10 RX+, 11 CRX, 14 TX-, 15 TX+, 16 CTX

## 7490140141
designator T?  (value not drawn)
WE-LAN LAN Transformer, SMT, 10/100BASE-T, 1 Port, 350uH, 4000V (RMS); Manufacturer: Wurth Elektronik; Improved CMRR: No; Number of Ports: 1; PoE: PoE (up to 350 mA); Manufacturer Part Number: 7490140141; Product Series: WE-LAN; ComponentLink1Description: Website Link; ComponentLink1URL: https://www.we-online.com; ComponentLink2Description: Datasheet Link; ComponentLink2URL: https://www.we-online.com/components/products/datasheet/7490140141; Mount: Surface Mount; Operating Temperature Min: -40degC; Operating Temperature Max: 85degC; Packaging: Tape and Reel; Data Rate: 10/100BASE-T; Inductance: 350uH; Insulation Test Voltage: 4000V (RMS)
footprint 7490140141
pins: 1 CTD, 2 TD+, 3 TD-, 4 CRD, 5 RD+, 6 RD-, 7 RX-, 8 RX+, 9 CRX, 10 TX-, 11 TX+, 12 CTX

## 7490140142
designator T?  (value not drawn)
WE-LAN LAN Transformer, SMT, 10/100BASE-T, 1 Port, 350uH, 4000V (RMS); Manufacturer: Wurth Elektronik; Improved CMRR: No; Number of Ports: 1; PoE: PoE (up to 350 mA); Manufacturer Part Number: 7490140142; Product Series: WE-LAN; ComponentLink1Description: Website Link; ComponentLink1URL: https://www.we-online.com; ComponentLink2Description: Datasheet Link; ComponentLink2URL: https://www.we-online.com/components/products/datasheet/7490140142; Mount: Surface Mount; Operating Temperature Min: -40degC; Operating Temperature Max: 85degC; Packaging: Tape and Reel; Data Rate: 10/100BASE-T; Inductance: 350uH; Insulation Test Voltage: 4000V (RMS)
footprint 7490140142
pins: 1 CTD, 2 TD+, 3 TD-, 10 CRD, 11 RD+, 12 RD-, 13 RX-, 14 RX+, 15 CRX, 22 TX-, 23 TX+, 24 CTX

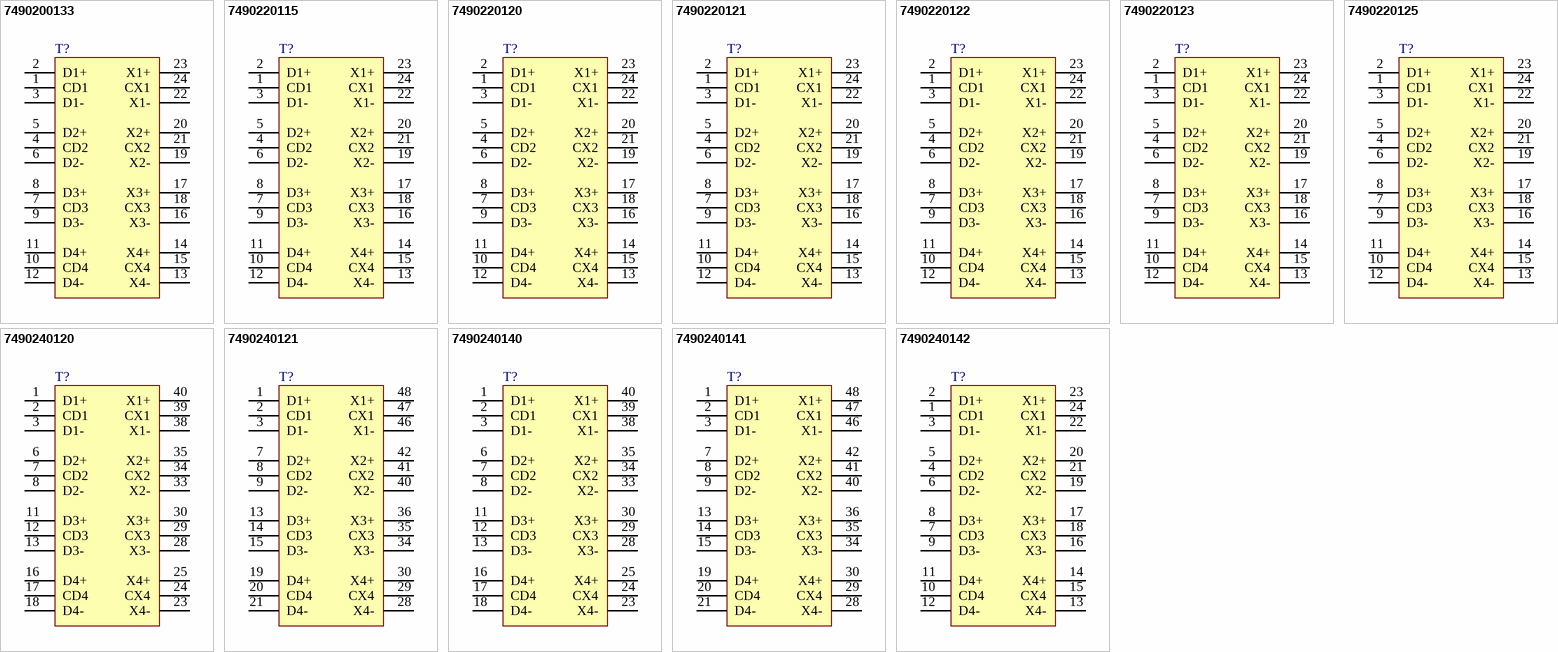
[diagram p1: symbols 7490200133 to 7490240142]

## 7490200133
designator T?  (value not drawn)
WE-LAN LAN Transformer, SMT, 10/100/1000BASE-T, 1 Port, 350uH, 1500V (RMS); Manufacturer: Wurth Elektronik; Improved CMRR: No; Number of Ports: 1; PoE: non-PoE; Manufacturer Part Number: 7490200133; Product Series: WE-LAN; ComponentLink1Description: Website Link; ComponentLink1URL: https://www.we-online.com; ComponentLink2Description: Datasheet Link; ComponentLink2URL: https://www.we-online.com/components/products/datasheet/7490200133; Mount: Surface Mount; Operating Temperature Min: 0degC; Operating Temperature Max: 70degC; Packaging: Tape and Reel; Data Rate: 10/100/1000BASE-T; Inductance: 350uH; Insulation Test Voltage: 1500V (RMS)
footprint 7490200133
pins: 1 CD1, 2 D1+, 3 D1-, 4 CD2, 5 D2+, 6 D2-, 7 CD3, 8 D3+, 9 D3-, 10 CD4, 11 D4+, 12 D4-, 13 X4-, 14 X4+, 15 CX4, 16 X3-, 17 X3+, 18 CX3, 19 X2-, 20 X2+, 21 CX2, 22 X1-, 23 X1+, 24 CX1

## 7490220115
designator T?  (value not drawn)
WE-LAN LAN Transformer, SMT, 10/100/1000BASE-T, 1 Port, 350uH, 1500V (RMS); Manufacturer: Wurth Elektronik; Improved CMRR: No; Number of Ports: 1; PoE: 4PPoE (up to 800 mA); Manufacturer Part Number: 7490220115; Product Series: WE-LAN; ComponentLink1Description: Website Link; ComponentLink1URL: https://www.we-online.com; ComponentLink2Description: Datasheet Link; ComponentLink2URL: https://www.we-online.com/components/products/datasheet/7490220115; Mount: Surface Mount; Operating Temperature Min: -40degC; Operating Temperature Max: 85degC; Packaging: Tape and Reel; Data Rate: 10/100/1000BASE-T; Inductance: 350uH; Insulation Test Voltage: 1500V (RMS)
footprint 7490220115
pins: 1 CD1, 2 D1+, 3 D1-, 4 CD2, 5 D2+, 6 D2-, 7 CD3, 8 D3+, 9 D3-, 10 CD4, 11 D4+, 12 D4-, 13 X4-, 14 X4+, 15 CX4, 16 X3-, 17 X3+, 18 CX3, 19 X2-, 20 X2+, 21 CX2, 22 X1-, 23 X1+, 24 CX1

## 7490220120
designator T?  (value not drawn)
WE-LAN LAN Transformer, SMT, 10/100/1000BASE-T, 1 Port, 350uH, 1500V (RMS); Manufacturer: Wurth Elektronik; Improved CMRR: No; Number of Ports: 1; PoE: 4PPoE (up to 350 mA); Manufacturer Part Number: 7490220120; Product Series: WE-LAN; ComponentLink1Description: Website Link; ComponentLink1URL: https://www.we-online.com; ComponentLink2Description: Datasheet Link; ComponentLink2URL: https://www.we-online.com/components/products/datasheet/7490220120; Mount: Surface Mount; Operating Temperature Min: -40degC; Operating Temperature Max: 105degC; Packaging: Tape and Reel; Data Rate: 10/100/1000BASE-T; Inductance: 350uH; Insulation Test Voltage: 1500V (RMS)
footprint 7490220120
pins: 1 CD1, 2 D1+, 3 D1-, 4 CD2, 5 D2+, 6 D2-, 7 CD3, 8 D3+, 9 D3-, 10 CD4, 11 D4+, 12 D4-, 13 X4-, 14 X4+, 15 CX4, 16 X3-, 17 X3+, 18 CX3, 19 X2-, 20 X2+, 21 CX2, 22 X1-, 23 X1+, 24 CX1

## 7490220121
designator T?  (value not drawn)
WE-LAN LAN Transformer, SMT, 10/100/1000BASE-T, 1 Port, 350uH, 1500V (RMS); Manufacturer: Wurth Elektronik; Improved CMRR: No; Number of Ports: 1; PoE: 4PPoE (up to 600 mA); Manufacturer Part Number: 7490220121; Product Series: WE-LAN; ComponentLink1Description: Website Link; ComponentLink1URL: https://www.we-online.com; ComponentLink2Description: Datasheet Link; ComponentLink2URL: https://www.we-online.com/components/products/datasheet/7490220121; Mount: Surface Mount; Operating Temperature Min: -40degC; Operating Temperature Max: 105degC; Packaging: Tape and Reel; Data Rate: 10/100/1000BASE-T; Inductance: 350uH; Insulation Test Voltage: 1500V (RMS)
footprint 7490220121
pins: 1 CD1, 2 D1+, 3 D1-, 4 CD2, 5 D2+, 6 D2-, 7 CD3, 8 D3+, 9 D3-, 10 CD4, 11 D4+, 12 D4-, 13 X4-, 14 X4+, 15 CX4, 16 X3-, 17 X3+, 18 CX3, 19 X2-, 20 X2+, 21 CX2, 22 X1-, 23 X1+, 24 CX1

## 7490220122
designator T?  (value not drawn)
WE-LAN LAN Transformer, SMT, 10/100/1000BASE-T, 1 Port, 350uH, 1500V (RMS); Manufacturer: Wurth Elektronik; Improved CMRR: No; Number of Ports: 1; PoE: 4PPoE (up to 1000 mA); Manufacturer Part Number: 7490220122; Product Series: WE-LAN; ComponentLink1Description: Website Link; ComponentLink1URL: https://www.we-online.com; ComponentLink2Description: Datasheet Link; ComponentLink2URL: https://www.we-online.com/components/products/datasheet/7490220122; Mount: Surface Mount; Operating Temperature Min: -40degC; Operating Temperature Max: 105degC; Packaging: Tape and Reel; Data Rate: 10/100/1000BASE-T; Inductance: 350uH; Insulation Test Voltage: 1500V (RMS)
footprint 7490220122
pins: 1 CD1, 2 D1+, 3 D1-, 4 CD2, 5 D2+, 6 D2-, 7 CD3, 8 D3+, 9 D3-, 10 CD4, 11 D4+, 12 D4-, 13 X4-, 14 X4+, 15 CX4, 16 X3-, 17 X3+, 18 CX3, 19 X2-, 20 X2+, 21 CX2, 22 X1-, 23 X1+, 24 CX1

## 7490220123
designator T?  (value not drawn)
WE-LAN LAN Transformer, SMT, 1000 Base-T, 1 Port, 180uH, 1500V (RMS); Manufacturer: Wurth Elektronik; Improved CMRR: No; Number of Ports: 1; PoE: 4PPoE (up to 1500 mA); Manufacturer Part Number: 7490220123; Product Series: WE-LAN; ComponentLink1Description: Website Link; ComponentLink1URL: https://www.we-online.com; ComponentLink2Description: Datasheet Link; ComponentLink2URL: https://www.we-online.com/components/products/datasheet/7490220123; Mount: Surface Mount; Operating Temperature Min: -40degC; Operating Temperature Max: 105degC; Packaging: Tape and Reel; Data Rate: 1000 Base-T; Inductance: 180uH; Insulation Test Voltage: 1500V (RMS)
footprint 7490220123
pins: 1 CD1, 2 D1+, 3 D1-, 4 CD2, 5 D2+, 6 D2-, 7 CD3, 8 D3+, 9 D3-, 10 CD4, 11 D4+, 12 D4-, 13 X4-, 14 X4+, 15 CX4, 16 X3-, 17 X3+, 18 CX3, 19 X2-, 20 X2+, 21 CX2, 22 X1-, 23 X1+, 24 CX1

## 7490220125
designator T?  (value not drawn)
WE-LAN LAN Transformer, SMT, 1000 Base-T, 1 Port, 180uH, 1500V (RMS); Manufacturer: Wurth Elektronik; Improved CMRR: No; Number of Ports: 1; PoE: 4PPoE (up to 1500 mA); Manufacturer Part Number: 7490220125; Product Series: WE-LAN; ComponentLink1Description: Website Link; ComponentLink1URL: https://www.we-online.com; ComponentLink2Description: Datasheet Link; ComponentLink2URL: https://www.we-online.com/components/products/datasheet/7490220125; Mount: Surface Mount; Operating Temperature Min: -40degC; Operating Temperature Max: 105degC; Packaging: Tape and Reel; Data Rate: 1000 Base-T; Inductance: 180uH; Insulation Test Voltage: 1500V (RMS)
footprint 7490220125
pins: 1 CD1, 2 D1+, 3 D1-, 4 CD2, 5 D2+, 6 D2-, 7 CD3, 8 D3+, 9 D3-, 10 CD4, 11 D4+, 12 D4-, 13 X4-, 14 X4+, 15 CX4, 16 X3-, 17 X3+, 18 CX3, 19 X2-, 20 X2+, 21 CX2, 22 X1-, 23 X1+, 24 CX1

## 7490240120
designator T?  (value not drawn)
WE-LAN LAN Transformer, SMT, 1000 Base-T, 1 Port, 350uH, 4000V (RMS); Manufacturer: Wurth Elektronik; Improved CMRR: No; Number of Ports: 1; PoE: 4PPoE (up to 350 mA); Manufacturer Part Number: 7490240120; Product Series: WE-LAN; ComponentLink1Description: Website Link; ComponentLink1URL: https://www.we-online.com; ComponentLink2Description: Datasheet Link; ComponentLink2URL: https://www.we-online.com/components/products/datasheet/7490240120; Mount: Surface Mount; Operating Temperature Min: -40degC; Operating Temperature Max: 105degC; Packaging: Tape and Reel; Data Rate: 1000 Base-T; Inductance: 350uH; Insulation Test Voltage: 4000V (RMS)
footprint 7490240120
pins: 1 D1+, 2 CD1, 3 D1-, 6 D2+, 7 CD2, 8 D2-, 11 D3+, 12 CD3, 13 D3-, 16 D4+, 17 CD4, 18 D4-, 23 X4-, 24 CX4, 25 X4+, 28 X3-, 29 CX3, 30 X3+, 33 X2-, 34 CX2, 35 X2+, 38 X1-, 39 CX1, 40 X1+

## 7490240121
designator T?  (value not drawn)
WE-LAN LAN Transformer, SMT, 1000 Base-T, 1 Port, 350uH, 1500V (RMS); Manufacturer: Wurth Elektronik; Improved CMRR: No; Number of Ports: 1; PoE: non-PoE; Manufacturer Part Number: 7490240121; Product Series: WE-LAN; ComponentLink1Description: Website Link; ComponentLink1URL: https://www.we-online.com; ComponentLink2Description: Datasheet Link; ComponentLink2URL: https://www.we-online.com/components/products/datasheet/7490240121; Mount: Surface Mount; Operating Temperature Min: -40degC; Operating Temperature Max: 85degC; Packaging: Tape and Reel; Data Rate: 1000 Base-T; Inductance: 350uH; Insulation Test Voltage: 1500V (RMS)
footprint 7490240121
pins: 1 D1+, 2 CD1, 3 D1-, 7 D2+, 8 CD2, 9 D2-, 13 D3+, 14 CD3, 15 D3-, 19 D4+, 20 CD4, 21 D4-, 28 X4-, 29 CX4, 30 X4+, 34 X3-, 35 CX3, 36 X3+, 40 X2-, 41 CX2, 42 X2+, 46 X1-, 47 CX1, 48 X1+

## 7490240140
designator T?  (value not drawn)
WE-LAN LAN Transformer, SMT, 1000 Base-T, 1 Port, 350uH, 4000V (RMS); Manufacturer: Wurth Elektronik; Improved CMRR: No; Number of Ports: 1; PoE: 4PPoE (up to 350 mA); Manufacturer Part Number: 7490240140; Product Series: WE-LAN; ComponentLink1Description: Website Link; ComponentLink1URL: https://www.we-online.com; ComponentLink2Description: Datasheet Link; ComponentLink2URL: https://www.we-online.com/components/products/datasheet/7490240140; Mount: Surface Mount; Operating Temperature Min: -40degC; Operating Temperature Max: 85degC; Packaging: Tape and Reel; Data Rate: 1000 Base-T; Inductance: 350uH; Insulation Test Voltage: 4000V (RMS)
footprint 7490240140
pins: 1 D1+, 2 CD1, 3 D1-, 6 D2+, 7 CD2, 8 D2-, 11 D3+, 12 CD3, 13 D3-, 16 D4+, 17 CD4, 18 D4-, 23 X4-, 24 CX4, 25 X4+, 28 X3-, 29 CX3, 30 X3+, 33 X2-, 34 CX2, 35 X2+, 38 X1-, 39 CX1, 40 X1+

## 7490240141
designator T?  (value not drawn)
WE-LAN LAN Transformer, SMT, 1000 Base-T, 1 Port, 350uH, 4000V (RMS); Manufacturer: Wurth Elektronik; Improved CMRR: No; Number of Ports: 1; PoE: 4PPoE (up to 350 mA); Manufacturer Part Number: 7490240141; Product Series: WE-LAN; ComponentLink1Description: Website Link; ComponentLink1URL: https://www.we-online.com; ComponentLink2Description: Datasheet Link; ComponentLink2URL: https://www.we-online.com/components/products/datasheet/7490240141; Mount: Surface Mount; Operating Temperature Min: -40degC; Operating Temperature Max: 85degC; Packaging: Tape and Reel; Data Rate: 1000 Base-T; Inductance: 350uH; Insulation Test Voltage: 4000V (RMS)
footprint 7490240141
pins: 1 D1+, 2 CD1, 3 D1-, 7 D2+, 8 CD2, 9 D2-, 13 D3+, 14 CD3, 15 D3-, 19 D4+, 20 CD4, 21 D4-, 28 X4-, 29 CX4, 30 X4+, 34 X3-, 35 CX3, 36 X3+, 40 X2-, 41 CX2, 42 X2+, 46 X1-, 47 CX1, 48 X1+

## 7490240142
designator T?  (value not drawn)
WE-LAN LAN Transformer, SMT, 1000 Base-T, 1 Port, 350uH, 4000V (RMS); Manufacturer: Wurth Elektronik; Improved CMRR: No; Number of Ports: 1; PoE: non-PoE; Manufacturer Part Number: 7490240142; Product Series: WE-LAN; ComponentLink1Description: Website Link; ComponentLink1URL: https://www.we-online.com; ComponentLink2Description: Datasheet Link; ComponentLink2URL: https://www.we-online.com/components/products/datasheet/7490240142; Mount: Surface Mount; Operating Temperature Min: -40degC; Operating Temperature Max: 85degC; Packaging: Tape and Reel; Data Rate: 1000 Base-T; Inductance: 350uH; Insulation Test Voltage: 4000V (RMS)
footprint 7490240142
pins: 1 CD1, 2 D1+, 3 D1-, 4 CD2, 5 D2+, 6 D2-, 7 CD3, 8 D3+, 9 D3-, 10 CD4, 11 D4+, 12 D4-, 13 X4-, 14 X4+, 15 CX4, 16 X3-, 17 X3+, 18 CX3, 19 X2-, 20 X2+, 21 CX2, 22 X1-, 23 X1+, 24 CX1